# EAGLE library part AY-3-8910 (library oldchips)
Programmable sound generator
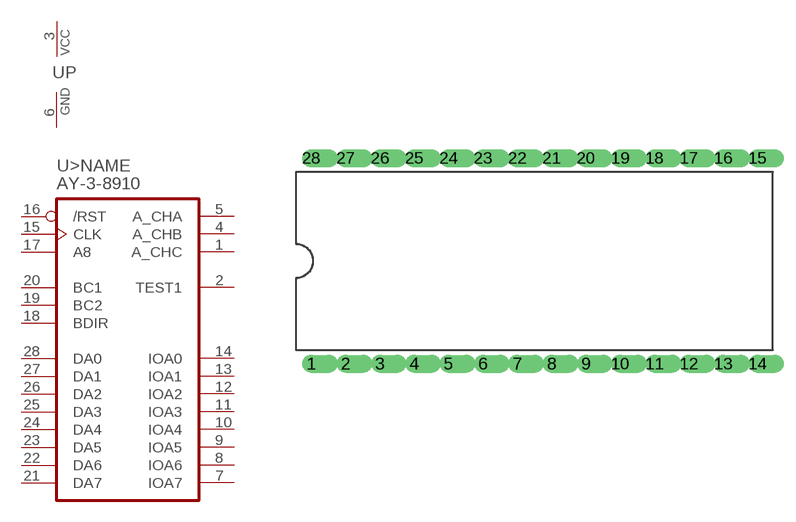
[diagram p0: symbol with the pads of DIL28-6; footprint DIL28-6]

Designator prefix U; gates P=PWRN >NAME=AY-3-8910

## AY-3-8910  [DIL28-6]
1  >NAME:A_CHC  out
2  >NAME:TEST1  in
3  P:VCC  pwr
4  >NAME:A_CHB  out
5  >NAME:A_CHA  out
6  P:GND  pwr
7  >NAME:IOA7
8  >NAME:IOA6
9  >NAME:IOA5
10  >NAME:IOA4
11  >NAME:IOA3
12  >NAME:IOA2
13  >NAME:IOA1
14  >NAME:IOA0
15  >NAME:CLK  in
16  >NAME:/RST  in
17  >NAME:A8  in
18  >NAME:BDIR  in
19  >NAME:BC2  in
20  >NAME:BC1  in
21  >NAME:DA7
22  >NAME:DA6
23  >NAME:DA5
24  >NAME:DA4
25  >NAME:DA3
26  >NAME:DA2
27  >NAME:DA1
28  >NAME:DA0

## Footprint DIL28-6 (pad centres in mm)
Dual In Line 0.6 inch
drill 0.813 offset: 1 -16.51,-7.62; 2 -13.97,-7.62; 3 -11.43,-7.62; 4 -8.89,-7.62; 5 -6.35,-7.62; 6 -3.81,-7.62; 7 -1.27,-7.62; 8 1.27,-7.62; 9 3.81,-7.62; 10 6.35,-7.62; 11 8.89,-7.62; 12 11.43,-7.62; 13 13.97,-7.62; 14 16.51,-7.62; 15 16.51,7.62; 16 13.97,7.62; 17 11.43,7.62; 18 8.89,7.62; 19 6.35,7.62; 20 3.81,7.62; 21 1.27,7.62; 22 -1.27,7.62; 23 -3.81,7.62; 24 -6.35,7.62; 25 -8.89,7.62; 26 -11.43,7.62; 27 -13.97,7.62; 28 -16.51,7.62